# Altium footprint library HARSH_Payload_PcbLib.PcbLib: 44 footprints (part 2 of 3)
Each footprint in its own frame and in the unit in brackets; x right, y up, seen from the top. Pads: shape width x height; smd on the part's side, far side on the other; paste and mask are expansions set on the pad; w line width, h text height; cw(c..) or ccw(c..) is an arc to the next point about the centre after c.
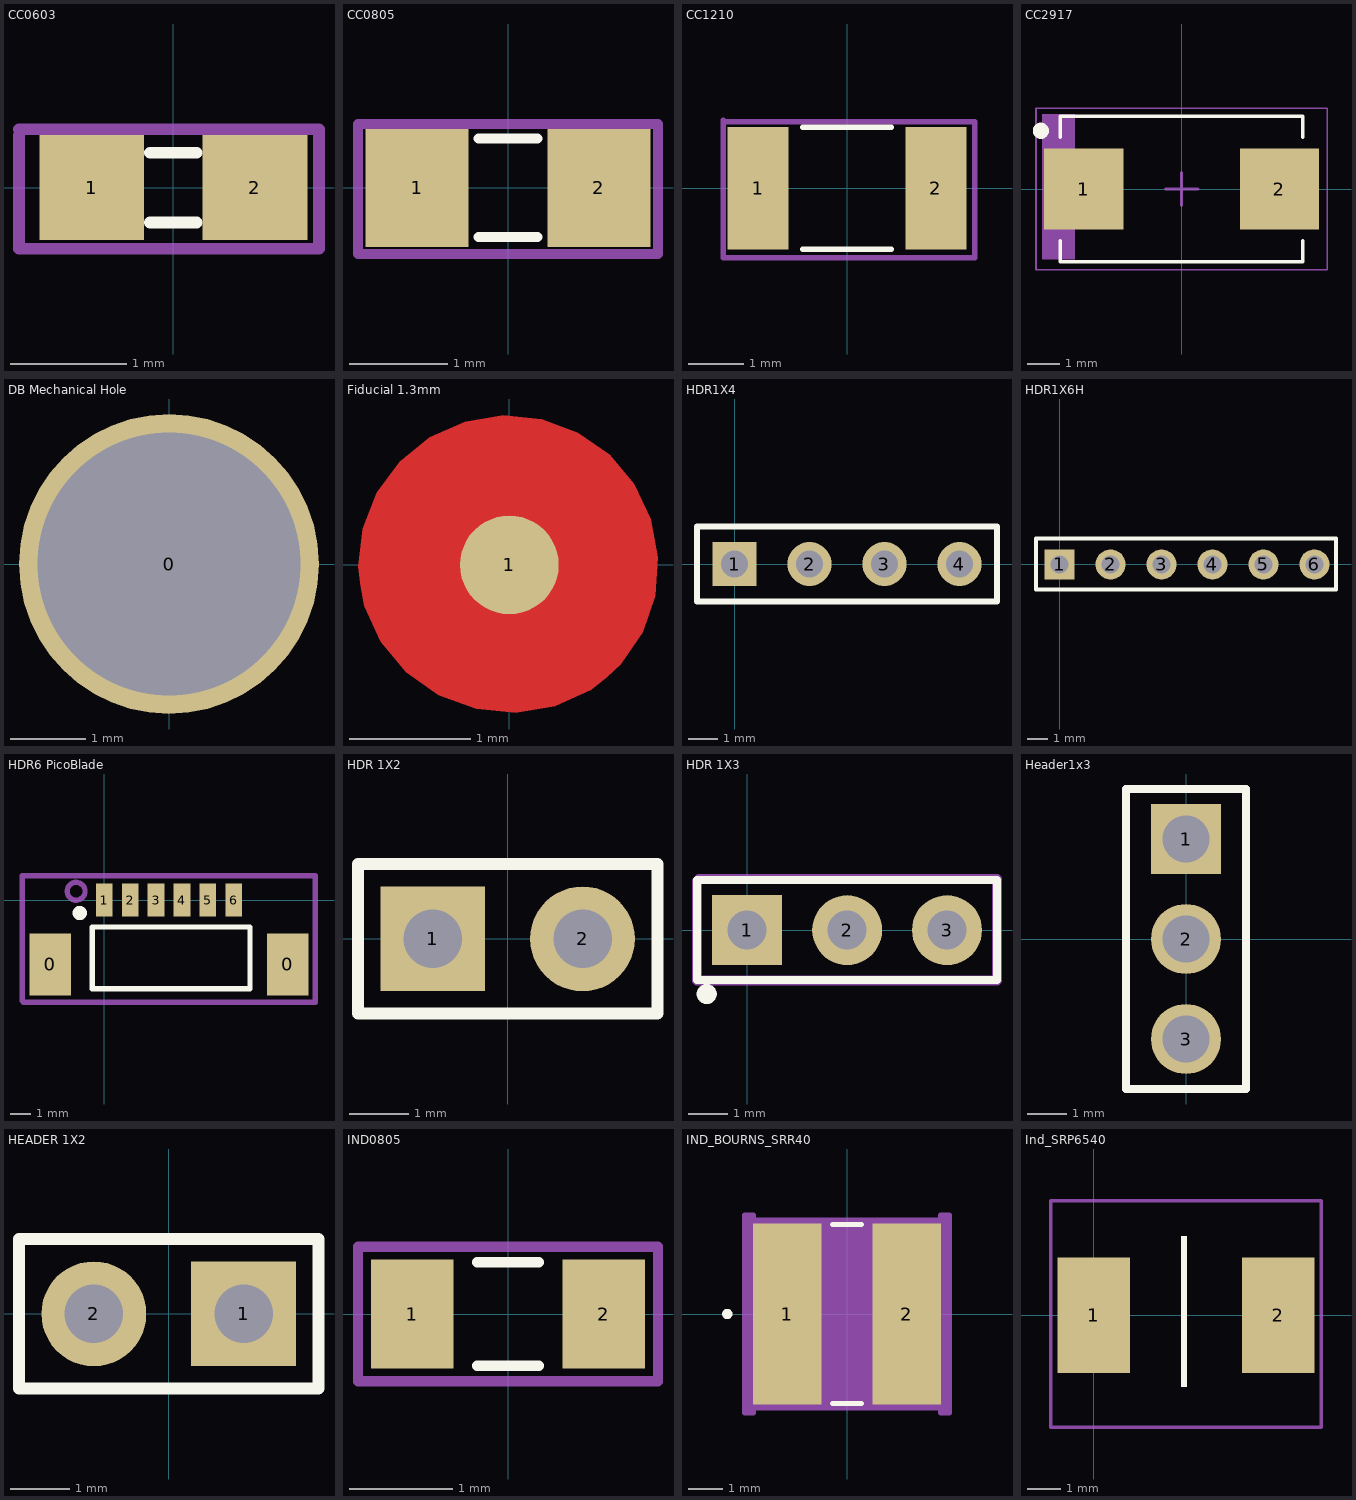
[diagram p1: the footprints below, top view; thin cyan lines are the x and y axes]

## CC0603 [mm] "TDK mlccspec_commercial_general_midvoltage_en.pdf"
height 0.8
pads (2):
  rect 0.9x0.9 smd: 1(-0.7,0) 2(0.7,0)
Top Overlay:
  lines w0.1: -0.2,-0.3 0.2,-0.3 ; -0.2,0.3 0.2,0.3
ASM Top:
  lines w0.1: -1.325,0.45 -1.325,-0.525 1.25,-0.525 1.25,0.5 -1.325,0.5
  text ".Designator" at -1.075,-0.175 h0.5
3D body "CC0603(1608M).STEP": height 0.78, standoff -0.01, extent -1,-0.394 1,0.394

## CC0805 [mm] "TDK mlccspec_commercial_general_midvoltage_en.pdf"
height 1.25
pads (2):
  rect 1.05x1.2 smd: 1(-0.925,0) 2(0.925,0)
Top Overlay:
  lines w0.1: -0.3,-0.5 0.3,-0.5 ; -0.3,0.5 0.3,0.5
ASM Top:
  lines w0.1: -1.525,-0.675 1.525,-0.675 1.525,0.65 -1.525,0.65 -1.525,-0.675
  text ".Designator" at -1.275,-0.075 h0.5
3D body "CC0805(2012M).STEP": height 0.78, standoff -0.01, extent -1.254,-0.622 1.254,0.622

## CC1210 [mm] "TDK mlccspec_commercial_general_midvoltage_en.pdf"
height 2.5
pads (2):
  rect 1.1x2.2 smd: 1(-1.6,0) 2(1.6,0)
Top Overlay:
  lines w0.1: -0.8,-1.1 0.8,-1.1 ; -0.8,1.1 0.8,1.1
ASM Top:
  lines w0.1: -2.225,1.225 -2.225,-1.25 2.3,-1.25 2.3,1.2 -2.175,1.2
  text ".Designator" at -2.25,0.5 h0.5
3D body "CC1210(3225M).STEP": height 1.69, standoff -0.01, extent -2,-1.244 2,1.245

## CC2917 [mm] "Molded Capacitor, 2-Leads, Body 7,30x4,35mm, IPC Medium Density"
height 2
pads (2):
  rect 2.45x2.5 smd: 1(-3.025,0) 2(3.025,0)
Top Overlay:
  circle w0.25: c-4.35,1.8 r0.125
  lines w0.1: -3.75,-1.6 -3.75,-2.25 3.75,-2.25 3.75,-1.6 ; -3.75,1.6 -3.75,2.25 3.75,2.25 3.75,1.6
ASM Top:
  rectangle: -4.309,-2.175 -3.3,2.325
  lines w0.05: -4.5,-2.5 4.5,-2.5 4.5,2.5 -4.5,2.5 -4.5,-2.5
  lines w0.1: -0.5,0 0.5,0 ; 0,-0.5 0,0.5
  text ".Designator" at -2.425,1.45 h0.5
Multi-Layer:
  region: -1.295,-1.651
  region: 4.775,-1.702
3D body "CASE_D_7343-31.STEP": height 2.8, standoff 0, extent -3.65,-2.15 3.65,2.15

## DB Mechanical Hole [mm]
pads (1):
  round 4 hole 3.5 mask+0: 0(0,0)

## Fiducial 1.3mm [mil]
pads (1):
  round 32 smd: 1(0,0)
Top Layer:
  pour cut-out: 0.19,48.23
  pour cut-out: -48.23,-6.89 -49.1,-0.68 -47.61,11.76 -43,23.41 -35.57,33.5 -25.81,41.35 -14.36,46.46 -1.99,48.47 10.48,47.27 22.23,42.91 32.48,35.71 40.55,26.12 45.91,14.79 48.2,2.47 47.27,-10.02 43.18,-21.87 36.2,-32.28 31.5,-36.42 26.5,-40.49 14.76,-45.8 2.06,-47.91 -10.77,-46.69 -22.85,-42.21 -33.38,-34.79 -41.64,-24.9 -47.09,-13.23
Top Solder:
  circle w10: c0,0 r43.01
  region: -31,-31 0,-43 32,-31 43,0 32,29 0,43 -31,31 -43,0

## HDR1X4 [mm] "Connector; Header; 4 Position"
height 3.1
pads (4):
  rect 1.5x1.5 hole 0.9: 1(0,0)
  round 1.5 hole 0.9: 2(2.54,0) 3(5.08,0) 4(7.62,0)
Top Overlay:
  lines w0.2: -1.27,-1.27 -1.27,1.27 8.89,1.27 8.89,-1.27 -1.27,-1.27

## HDR1X6H [mm] "Connector; Header; 6 Position; Right Angle"
pads (6):
  rect 1.5x1.5 hole 0.9: 1(0,0)
  round 1.5 hole 0.9: 2(2.54,0) 3(5.08,0) 4(7.62,0) 5(10.16,0) 6(12.7,0)
Top Overlay:
  lines w0.2: -1.18,-1.24 13.78,-1.24 13.78,0.135 13.78,1.28 -1.18,1.28 -1.18,-1.24

## HDR6 PicoBlade [mm]
pads (8):
  rect 2x3 smd: 0(-2.6,-3.1) 0(8.85,-3.1)
  rect 0.8x1.6 smd: 1(0,0) 2(1.25,0) 3(2.5,0) 4(3.75,0) 5(5,0) 6(6.25,0)
Top Overlay:
  circle w0.5: c-1.175,-0.625 r0.09
  lines w0.254: -0.574,-4.275 -0.574,-1.3 7.025,-1.3 7.025,-4.275 -0.574,-4.275
ASM Top:
  circle w0.254: c-1.35,0.425 r0.432
  lines w0.254: -3.95,-4.85 -3.875,-4.925 10.175,-4.925 10.175,1.175 -3.95,1.175 -3.95,-4.85
  text ".Designator" at -3.341,-1.212 h0.5
3D body "User Library-molex 5339853398-0671.STEP": height 4.7, standoff 0, extent -3.125,-4.325 9.525,-0.125

## HDR 1X2 [mil]
pads (2):
  rect 70x70 hole 39: 1(-50,0)
  round 70 hole 39: 2(50,0)
Top Overlay:
  lines w8: -100,-50 -100,50 100,50 100,-50 -100,-50
ASM Top:
  lines w3.94: -99.41,-50.2 -99.41,49.21 100.39,49.21 100.39,-50.2 -99.41,-50.2
  text ".Designator" at -78.74,-36.42 h19.68
3D body "Samtec-HTSW-102-07-G-S.STEP": height 330, standoff -100, extent -99.99,-49.99 100.01,50.01

## HDR 1X3 [mil]
height 122.05
pads (3):
  rect 70x70 hole 39: 1(0,0)
  round 70 hole 39: 2(100,0) 3(200,0)
Top Overlay:
  circle w10: c-40.45,-63.98 r5.02
  lines w8: -50,-50 250,-50 250,50 -50,50 -50,-50
ASM Top:
  lines w10: -50.2,-50.2 250,-50.2 250,51.18 -48.23,51.18 -50.2,49.21 -50.2,-50.2
  text ".Designator" at -29.13,-5.51 h19.68
3D body "Samtec-HTSW-103-07-G-S.STEP": height 330, standoff -100, extent -49.99,-49.99 250.01,50.01

## Header1x3 [mil]
pads (3):
  rect 70x70 hole 47.24: 1(0,100)
  round 70 hole 47.24: 2(0,0) 3(0,-100)
Top Overlay:
  lines w7.87: -60,-150 60,-150 60,150 -60,150 -60,-150
ASM Top:
  lines w7.87: -60,-150 -60,150 60,150 60,-150 -60,-150
  text ".Designator" at 0,98.43 h19.68
3D body "TSW-103-08-G-S-RA.stp": height 119.5, standoff -89.5, extent -391.25,-150 11.25,150

## HEADER 1X2 [mil]
pads (2):
  rect 70x70 hole 39: 1(50,0)
  round 70 hole 39: 2(-50,0)
Top Overlay:
  lines w8: -100,-50 100,-50 100,50 -100,50 -100,-50
ASM Top:
  lines w3.94: -99.41,-50.2 100.39,-50.2 100.39,49.21 -99.41,49.21 -99.41,-50.2
  text ".Designator" at -78.74,-36.42 h19.68
3D body: height 69.09, standoff 0, extent 0,0 0,0
3D body "TSW-102-08-G-S-RA.stp": height 119.5, standoff -89.5, extent -100,-13.44 100,389.06

## IND0805 [mm]
height 1.25
pads (2):
  rect 0.8x1.05 smd: 1(-0.925,0) 2(0.925,0)
Top Overlay:
  lines w0.1: -0.3,-0.5 0.3,-0.5 ; -0.3,0.5 0.3,0.5
ASM Top:
  lines w0.1: -1.45,-0.65 -1.45,0.65 1.45,0.65 1.45,-0.65 -1.45,-0.65
  text ".Designator" at -1.15,-0.1 h0.5
3D body "INDC0805(2012M).STEP": height 0.95, standoff 0, extent -1,-0.6 1,0.6

## IND_BOURNS_SRR40 [mil]
pads (2):
  rect 79x209 smd paste+0 mask+0: 1(-69,0) 2(69,0)
Top Overlay:
  circle w6: c-138.5,0 r3
  lines w6: -16.4,-103.5 16.4,-103.5 ; -16.4,103.5 16.4,103.5
Mechanical 13:
  circle w0: c-95.5,0 r3
  lines w1: -98.5,-98.5 98.5,-98.5 98.5,98.5 -98.5,98.5 -98.5,-98.5
ASM Top:
  region: -108.5,-114.5 -118.5,-114.5 -118.5,114.5 -108.5,114.5 -108.5,108.5 108.5,108.5 108.5,114.5 118.5,114.5 118.5,-114.5 108.5,-114.5 108.5,-108.5 -108.5,-108.5
  lines w6: -118.5,-114.5 -118.5,114.5 -108.5,114.5 -108.5,108.5 108.5,108.5 108.5,114.5 118.5,114.5 118.5,-114.5 108.5,-114.5 108.5,-108.5 -108.5,-108.5 -108.5,-114.5 -118.5,-114.5
3D body "IND_BOURNS_SRR4028.step": height 117.99, standoff 0, extent -93.5,-99.49 103.5,109.49

## Ind_SRP6540 [mm]
height 3.74
pads (2):
  rect 2.2x3.5 smd: 1(0,0) 2(5.6,0)
Top Overlay:
  region: 2.827,-2.175 2.827,2.4 2.65,2.4 2.65,-2.175
ASM Top:
  lines w0.1: -1.3,-3.4 -1.3,3.475 6.9,3.475 6.9,-3.4 -1.3,-3.4
  text ".Designator" at 0.175,2.2 h0.5
3D body "User Library-SRR6028.STEP": height 3.1, standoff 0, extent -0.575,-3.4 6.225,3.4